# Altium schematic symbol library Relay-LCC120.SchLib: 1 symbol
Pins are listed as number, name and electrical type; pins without a type are passive.

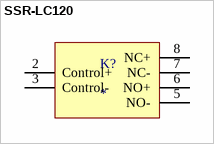
[diagram p0: symbol SSR-LC120]

## SSR-LC120
designator K?
Relay SSR SPDT; Digi-Key Part Number: CLA254CT-ND
footprint LCC120S (SSR Relay SPDT Form C, 170mA 0~250V)
pins: 2 Control+, 3 Control-, 5 NO-, 6 NO+, 7 NC-, 8 NC+